# EAGLE library part MICRO_BIT (library Cing Library)
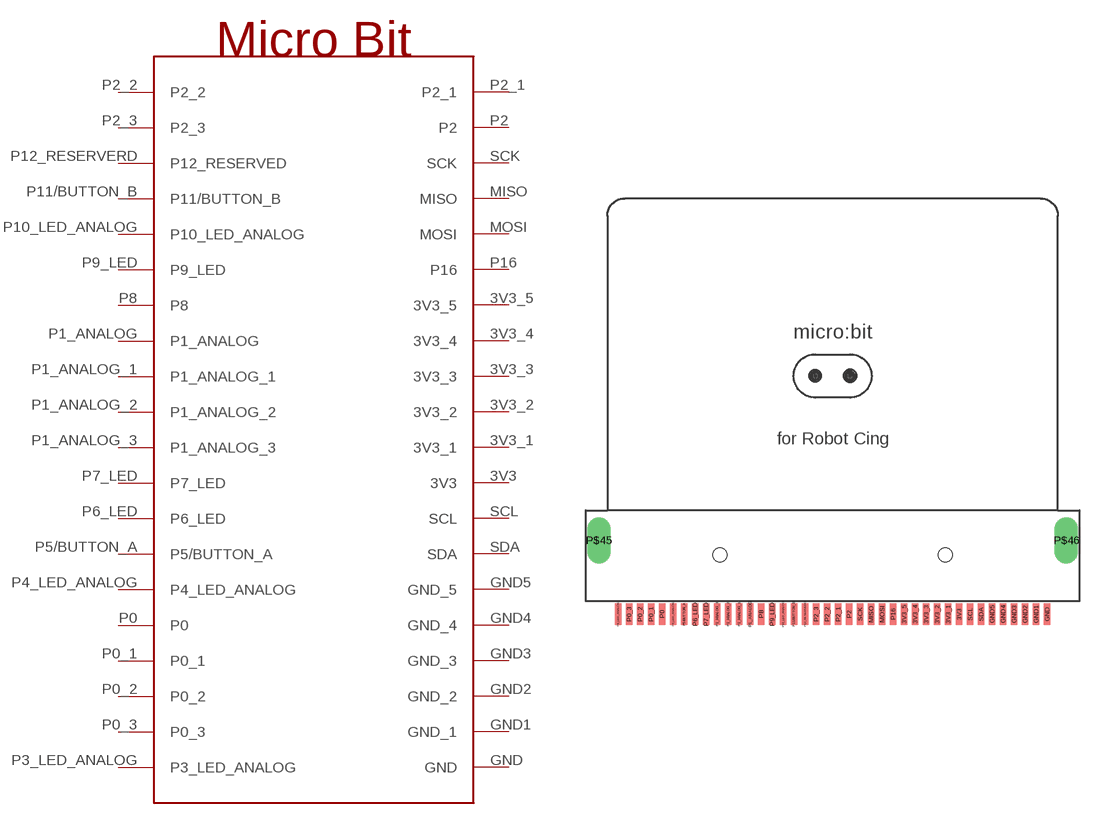
[diagram p16: symbol with the pads of MICRO_BIT; footprint MICRO_BIT]

Designator prefix -

## MICRO_BIT  [MICRO_BIT]
3V3  3V3
3V3_1  3V3_1
3V3_2  3V3_2
3V3_3  3V3_3
3V3_4  3V3_4
3V3_5  3V3_5
GND  GND
GND1  GND_1
GND2  GND_2
GND3  GND_3
GND4  GND_4
GND5  GND_5
MISO  MISO
MOSI  MOSI
P0  P0
P0_1  P0_1
P0_2  P0_2
P0_3  P0_3
P1_ANALOG  P1_ANALOG
P1_ANALOG_1  P1_ANALOG_1
P1_ANALOG_2  P1_ANALOG_2
P1_ANALOG_3  P1_ANALOG_3
P2  P2
P2_1  P2_1
P2_2  P2_2
P2_3  P2_3
P3_LED_ANALOG  P3_LED_ANALOG
P4_LED_ANALOG  P4_LED_ANALOG
P5/BUTTON_A  P5/BUTTON_A
P6_LED  P6_LED
P7_LED  P7_LED
P8  P8
P9_LED  P9_LED
P10_LED_ANALOG  P10_LED_ANALOG
P11/BUTTON_B  P11/BUTTON_B
P12_RESERVERD  P12_RESERVED
P16  P16
SCK  SCK
SCL  SCL
SDA  SDA

## Footprint MICRO_BIT (pad centres in mm)
smd 0.75 x 2.5: 3V3 14.605,0; 3V3_1 13.335,0; 3V3_2 12.065,0; 3V3_3 10.795,0; 3V3_4 9.525,0; 3V3_5 8.255,0; GND 24.765,0; GND1 23.495,0; GND2 22.225,0; GND3 20.955,0; GND4 19.685,0; GND5 18.415,0; MISO 4.445,0; MOSI 5.715,0; P0 -19.685,0; P0_1 -20.955,0; P0_2 -22.225,0; P0_3 -23.495,0; P1_ANALOG -9.525,0; P1_ANALOG_1 -10.795,0; P1_ANALOG_2 -12.065,0; P1_ANALOG_3 -13.335,0; P2 1.905,0; P2_1 0.635,0; P2_2 -0.635,0; P2_3 -1.905,0; P3_LED_ANALOG -24.765,0; P4_LED_ANALOG -18.415,0; P5/BUTTON_A -17.145,0; P6_LED -15.875,0; P7_LED -14.605,0; P8 -8.255,0; P9_LED -6.985,0; P10_LED_ANALOG -5.715,0; P11/BUTTON_B -4.445,0; P12_RESERVERD -3.175,0; P16 6.985,0; SCK 3.175,0; SCL 15.875,0; SDA 17.145,0
drill 1.8 long: P$45 -27,8.51; P$46 27,8.51
hole 1.6 at -13,6.85
hole 1.6 at 13,6.85